# EAGLE library part LINKIT7688 (library linkit7688)
Linkit Smart 7688
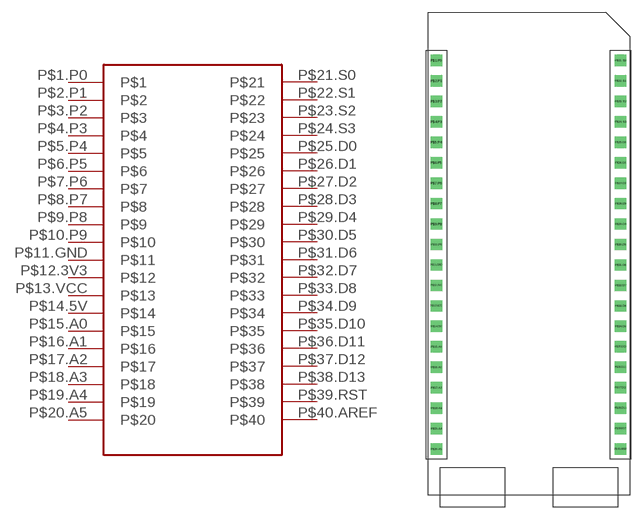
[diagram p0: symbol with the pads of LINKIT7688; footprint LINKIT7688]

Designator prefix -

## LINKIT7688  [LINKIT7688]
P$1.P0  P$1
P$2.P1  P$2
P$3.P2  P$3
P$4.P3  P$4
P$5.P4  P$5
P$6.P5  P$6
P$7.P6  P$7
P$8.P7  P$8
P$9.P8  P$9
P$10.P9  P$10
P$11.GND  P$11
P$12.3V3  P$12
P$13.VCC  P$13
P$14.5V  P$14
P$15.A0  P$15
P$16.A1  P$16
P$17.A2  P$17
P$18.A3  P$18
P$19.A4  P$19
P$20.A5  P$20
P$21.S0  P$21
P$22.S1  P$22
P$23.S2  P$23
P$24.S3  P$24
P$25.D0  P$25
P$26.D1  P$26
P$27.D2  P$27
P$28.D3  P$28
P$29.D4  P$29
P$30.D5  P$30
P$31.D6  P$31
P$32.D7  P$32
P$33.D8  P$33
P$34.D9  P$34
P$35.D10  P$35
P$36.D11  P$36
P$37.D12  P$37
P$38.D13  P$38
P$39.RST  P$39
P$40.AREF  P$40

## Footprint LINKIT7688 (pad centres in mm)
drill 0.9 square: P$1.P0 0,0; P$2.P1 0,-2.54; P$3.P2 0,-5.08; P$4.P3 0,-7.62; P$5.P4 0,-10.16; P$6.P5 0,-12.7; P$7.P6 0,-15.24; P$8.P7 0,-17.78; P$9.P8 0,-20.32; P$10.P9 0,-22.86; P$11.GND 0,-25.4; P$12.3V3 0,-27.94; P$13.VCC 0,-30.48; P$14.5V 0,-33.02; P$15.A0 0,-35.56; P$16.A1 0,-38.1; P$17.A2 0,-40.64; P$18.A3 0,-43.18; P$19.A4 0,-45.72; P$20.A5 0,-48.26; P$21.S0 22.86,0; P$22.S1 22.86,-2.54; P$23.S2 22.86,-5.08; P$24.S3 22.86,-7.62; P$25.D0 22.86,-10.16; P$26.D1 22.86,-12.7; P$27.D2 22.86,-15.24; P$28.D3 22.86,-17.78; P$29.D4 22.86,-20.32; P$30.D5 22.86,-22.86; P$31.D6 22.86,-25.4; P$32.D7 22.86,-27.94; P$33.D8 22.86,-30.48; P$34.D9 22.86,-33.02; P$35.D10 22.86,-35.56; P$36.D11 22.86,-38.1; P$37.D12 22.86,-40.64; P$38.D13 22.86,-43.18; P$39.RST 22.86,-45.72; P$40.AREF 22.86,-48.26